# EAGLE library part AMC1200B (library HyTechDevices)
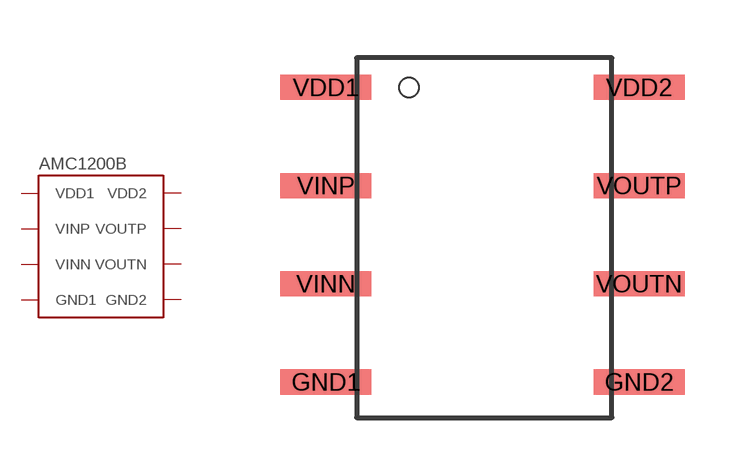
[diagram p79: symbol with the pads of AMC1200B; footprint AMC1200B]

Designator prefix -

## AMC1200B  [AMC1200B]
GND1  GND1  pwr
GND2  GND2  pwr
VDD1  VDD1  pwr
VDD2  VDD2  pwr
VINN  VINN  in
VINP  VINP  in
VOUTN  VOUTN  out
VOUTP  VOUTP  out

## Footprint AMC1200B (pad centres in mm)
smd 2.35 x 0.65: GND1 -4.05,0; GND2 4.05,0; VDD1 -4.05,7.62; VDD2 4.05,7.62; VINN -4.05,2.54; VINP -4.05,5.08; VOUTN 4.05,2.54; VOUTP 4.05,5.08